# EAGLE library part MPU-6050 (library MPU6050)
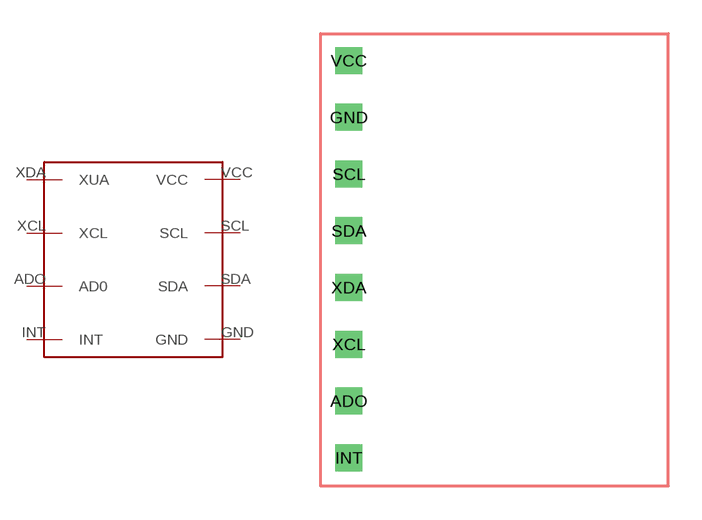
[diagram p0: symbol with the pads of MPU-6050; footprint MPU-6050]

Designator prefix -

## MPU-6050  [MPU-6050]
ADO  AD0
GND  GND
INT  INT
SCL  SCL
SDA  SDA
VCC  VCC
XCL  XCL
XDA  XUA

## Footprint MPU-6050 (pad centres in mm)
drill 0.7 square: ADO 1.27,3.81; GND 1.27,16.51; INT 1.27,1.27; SCL 1.27,13.97; SDA 1.27,11.43; VCC 1.27,19.05; XCL 1.27,6.35; XDA 1.27,8.89